# EAGLE library part LTC2996 (library hsk_2012)
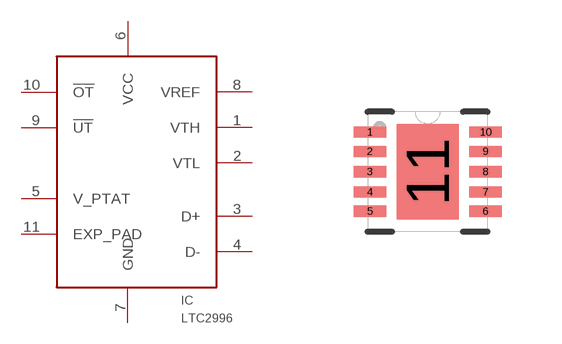
[diagram p44: symbol with the pads of DFN300X300X80-11N; footprint DFN300X300X80-11N]

Designator prefix IC

## LTC2996  [DFN300X300X80-11N]
1  VTH
2  VTL
3  D+
4  D-
5  V_PTAT
6  VCC
7  GND
8  VREF
9  !UT
10  !OT
11  EXP_PAD

## Footprint DFN300X300X80-11N (pad centres in mm)
smd 0.813 x 0.28: 1 -1.448,0.991; 2 -1.448,0.508; 3 -1.448,0; 4 -1.448,-0.508; 5 -1.448,-0.991; 6 1.448,-0.991; 7 1.448,-0.508; 8 1.448,0; 9 1.448,0.508; 10 1.448,0.991
smd 1.549 x 2.388: 11 0,0